# Altium footprint library Header.PcbLib: 40 footprints (part 3 of 3)
Each footprint in its own frame and in the unit in brackets; x right, y up, seen from the top. Pads: shape width x height; smd on the part's side, far side on the other; paste and mask are expansions set on the pad; w line width, h text height; cw(c..) or ccw(c..) is an arc to the next point about the centre after c.
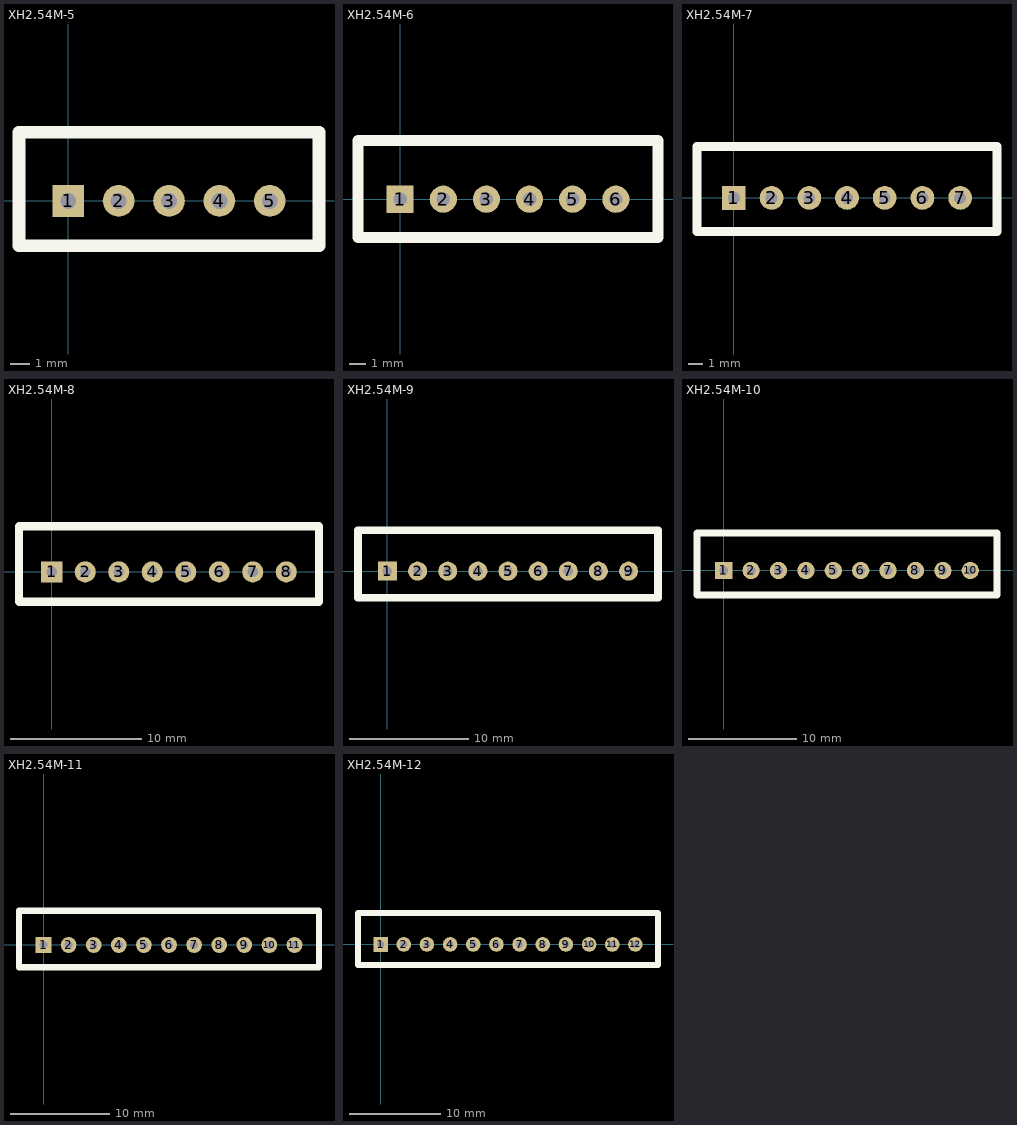
[diagram p2: the footprints below, top view; thin cyan lines are the x and y axes]

## XH2.54M-5 [mm]
pads (5):
  rect 1.6x1.6 hole 0.8: 1(0,0)
  round 1.6 hole 0.8: 2(2.54,0) 3(5.08,0) 4(7.62,0) 5(10.16,0)
Top Overlay:
  lines w0.635: -2.48,-2.26 -2.48,3.46 12.64,3.46 12.64,-2.26 -2.48,-2.26
3D body "XH2.54M-5.STEP": height 6.91, standoff -1.82, extent -2.48,-2.26 12.64,3.48

## XH2.54M-6 [mm]
pads (6):
  rect 1.6x1.6 hole 0.8: 1(0,0)
  round 1.6 hole 0.8: 2(2.54,0) 3(5.08,0) 4(7.62,0) 5(10.16,0) 6(12.7,0)
Top Overlay:
  lines w0.635: -2.48,-2.26 15.18,-2.26 15.18,3.46 -2.48,3.46 -2.48,-2.26
3D body "XH2.54M-6.STEP": height 6.91, standoff -1.82, extent -2.48,-2.26 15.18,3.48

## XH2.54M-7 [mm]
pads (7):
  rect 1.6x1.6 hole 0.8: 1(0,0)
  round 1.6 hole 0.8: 2(2.54,0) 3(5.08,0) 4(7.62,0) 5(10.16,0) 6(12.7,0) 7(15.24,0)
Top Overlay:
  lines w0.635: -2.48,-2.26 -2.48,3.46 17.72,3.46 17.72,-2.26 -2.48,-2.26
3D body "XH2.54M-7.STEP": height 6.91, standoff -1.82, extent -2.48,-2.26 17.72,3.48

## XH2.54M-8 [mm]
pads (8):
  rect 1.6x1.6 hole 0.8: 1(0,0)
  round 1.6 hole 0.8: 2(2.54,0) 3(5.08,0) 4(7.62,0) 5(10.16,0) 6(12.7,0) 7(15.24,0) 8(17.78,0)
Top Overlay:
  lines w0.635: -2.48,-2.26 20.26,-2.26 20.26,3.46 -2.48,3.46 -2.48,-2.26
3D body "XH2.54M-8.STEP": height 6.91, standoff -1.82, extent -2.48,-2.26 20.26,3.48

## XH2.54M-9 [mm]
pads (9):
  rect 1.6x1.6 hole 0.8: 1(0,0)
  round 1.6 hole 0.8: 2(2.54,0) 3(5.08,0) 4(7.62,0) 5(10.16,0) 6(12.7,0) 7(15.24,0) 8(17.78,0) 9(20.32,0)
Top Overlay:
  lines w0.635: -2.48,-2.26 -2.48,3.46 22.8,3.46 22.8,-2.26 -2.48,-2.26
3D body "XH2.54M-9.STEP": height 6.91, standoff -1.82, extent -2.48,-2.26 22.8,3.48

## XH2.54M-10 [mm]
pads (10):
  rect 1.6x1.6 hole 0.8: 1(0,0)
  round 1.6 hole 0.8: 2(2.54,0) 3(5.08,0) 4(7.62,0) 5(10.16,0) 6(12.7,0) 7(15.24,0) 8(17.78,0) 9(20.32,0) 10(22.86,0)
Top Overlay:
  lines w0.635: -2.48,-2.26 -2.48,3.46 25.34,3.46 25.34,-2.26 -2.48,-2.26
3D body "XH2.54M-10.STEP": height 6.91, standoff -1.82, extent -2.48,-2.26 25.34,3.48

## XH2.54M-11 [mm]
pads (11):
  rect 1.6x1.6 hole 0.8: 1(0,0)
  round 1.6 hole 0.8: 2(2.54,0) 3(5.08,0) 4(7.62,0) 5(10.16,0) 6(12.7,0) 7(15.24,0) 8(17.78,0) 9(20.32,0) 10(22.86,0) 11(25.4,0)
Top Overlay:
  lines w0.635: -2.48,-2.26 27.88,-2.26 27.88,3.46 -2.48,3.46 -2.48,-2.26
3D body "XH2.54M-11.STEP": height 6.91, standoff -1.82, extent -2.48,-2.26 27.88,3.48

## XH2.54M-12 [mm]
pads (12):
  rect 1.6x1.6 hole 0.8: 1(0,0)
  round 1.6 hole 0.8: 2(2.54,0) 3(5.08,0) 4(7.62,0) 5(10.16,0) 6(12.7,0) 7(15.24,0) 8(17.78,0) 9(20.32,0) 10(22.86,0) 11(25.4,0) 12(27.94,0)
Top Overlay:
  lines w0.635: -2.48,-2.26 -2.48,3.46 30.42,3.46 30.42,-2.26 -2.48,-2.26
3D body "XH2.54M-12.STEP": height 6.91, standoff -1.82, extent -2.48,-2.26 30.42,3.48